# Altium footprint library 618 0xx 292 21.PcbLib: 4 footprints
Each footprint in its own frame and in the unit in brackets; x right, y up, seen from the top. Pads: shape width x height; smd on the part's side, far side on the other; paste and mask are expansions set on the pad; w line width, h text height; cw(c..) or ccw(c..) is an arc to the next point about the centre after c.
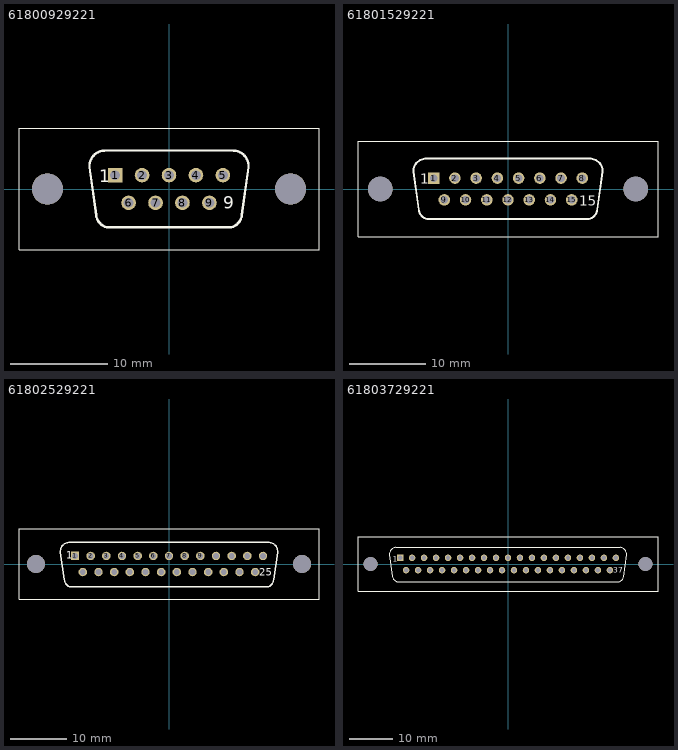
[diagram p0: the footprints below, top view; thin cyan lines are the x and y axes]

## 61800929221 [mm] "Male 09p Straight With board clip & Hex screw UNC 4-40"
height 10.9
pads (11):
  rect 1.5x1.5 hole 1: 1(-5.54,1.42)
  round 1.5 hole 1: 2(-2.77,1.42) 3(0,1.42) 4(2.77,1.42) 5(5.54,1.42) 6(-4.155,-1.42) 7(-1.385,-1.42) 8(1.385,-1.42) 9(4.155,-1.42)
  round 3.2 hole 3.2 unplated: ""(-12.495,0) ""(12.495,0)
Top Overlay:
  lines w0.127: -15.405,-6.25 -15.405,6.25 15.405,6.25 15.405,-6.25 -15.405,-6.25
  lines w0.254: -6.665,3.95 ccw(c-6.559,2.343) -8.165,2.237 -7.477,-2.663 ccw(c-6.09,-2.564) -6.407,-3.917 ; -6.665,3.954 6.65,3.954 ; -6.35,-3.933 6.35,-3.937 ; 6.406,-3.917 ccw(c6.09,-2.564) 7.477,-2.663 8.165,2.237 ccw(c6.559,2.343) 6.665,3.95
  text "9" at 5.575,-2.025 h1.27
  text "1" at -7.175,0.7 h1.27
3D body: height 12.9, standoff -4, extent -15.405,-6.25 15.405,6.25

## 61801529221 [mm] "Male 15p Straight With board clip & Hex screw UNC 4-40"
height 10.9
pads (17):
  rect 1.5x1.5 hole 1: 1(-9.695,1.42)
  round 1.5 hole 1: 2(-6.925,1.42) 3(-4.155,1.42) 4(-1.385,1.42) 5(1.385,1.42) 6(4.155,1.42) 7(6.925,1.42) 8(9.695,1.42) 9(-8.31,-1.42) 10(-5.54,-1.42) 11(-2.77,-1.42) 12(0,-1.42) 13(2.77,-1.42) 14(5.54,-1.42) 15(8.31,-1.42)
  round 3.2 hole 3.2 unplated: ""(-16.66,0) ""(16.66,0)
Top Overlay:
  lines w0.127: -19.57,-6.25 19.57,-6.25 19.57,6.25 -19.57,6.25 -19.57,-6.25
  lines w0.254: -10.83,3.95 ccw(c-10.724,2.343) -12.33,2.237 -11.642,-2.663 ccw(c-10.255,-2.564) -10.572,-3.917 ; -10.83,3.954 10.83,3.954 ; -10.541,-3.933 10.541,-3.933 ; 10.571,-3.917 ccw(c10.255,-2.564) 11.642,-2.663 12.33,2.237 ccw(c10.724,2.343) 10.83,3.95
  text "1" at -11.45,0.675 h1.27
  text "15" at 9.3,-2.175 h1.27
3D body: height 12.9, standoff -4, extent -19.57,-6.25 19.57,6.25

## 61802529221 [mm] "Male 25p Straight With board clip & Hex screw UNC 4-40"
height 10.9
pads (27):
  rect 1.5x1.5 hole 1: 1(-16.62,1.42)
  round 1.5 hole 1: 2(-13.85,1.42) 3(-11.08,1.42) 4(-8.31,1.42) 5(-5.54,1.42) 6(-2.77,1.42) 7(0,1.42) 8(2.77,1.42) 9(5.54,1.42) 10(8.31,1.42) 11(11.08,1.42) 12(13.85,1.42) 13(16.62,1.42) 14(-15.235,-1.42) 15(-12.465,-1.42) 16(-9.695,-1.42) 17(-6.925,-1.42) 18(-4.155,-1.42) 19(-1.385,-1.42) 20(1.385,-1.42) 21(4.155,-1.42) 22(6.925,-1.42) 23(9.695,-1.42) 24(12.465,-1.42) 25(15.235,-1.42)
  round 3.2 hole 3.2 unplated: ""(-23.52,0) ""(23.52,0)
Top Overlay:
  lines w0.127: -26.52,-6.25 26.52,-6.25 26.52,6.25 -26.52,6.25 -26.52,-6.25
  lines w0.254: -17.69,3.823 ccw(c-17.584,2.216) -19.19,2.11 -18.502,-2.79 ccw(c-17.115,-2.691) -17.432,-4.044 ; -17.69,3.827 17.69,3.827 ; -17.399,-4.06 17.399,-4.06 ; 17.431,-4.044 ccw(c17.115,-2.691) 18.502,-2.79 19.19,2.11 ccw(c17.584,2.216) 17.69,3.823
  text "25" at 15.925,-2.05 h1.27
  text "1" at -18.2,0.95 h1.27
3D body: height 12.9, standoff -4, extent -26.52,-6.25 26.52,6.25

## 61803729221 [mm] "Male 37p Straight With board clip & Hex screw UNC 4-40"
height 10.9
pads (39):
  rect 1.5x1.5 hole 1: 1(-24.93,1.42)
  round 1.5 hole 1: 2(-22.16,1.42) 3(-19.39,1.42) 4(-16.62,1.42) 5(-13.85,1.42) 6(-11.08,1.42) 7(-8.31,1.42) 8(-5.54,1.42) 9(-2.77,1.42) 10(0,1.42) 11(2.77,1.42) 12(5.54,1.42) 13(8.31,1.42) 14(11.08,1.42) 15(13.85,1.42) 16(16.62,1.42) 17(19.39,1.42) 18(22.16,1.42) 19(24.93,1.42) 20(-23.545,-1.42) 21(-20.775,-1.42) 22(-18.005,-1.42) 23(-15.235,-1.42) 24(-12.465,-1.42) 25(-9.695,-1.42) 26(-6.925,-1.42) 27(-4.155,-1.42) 28(-1.385,-1.42) 29(1.385,-1.42) 30(4.155,-1.42) 31(6.925,-1.42) 32(9.695,-1.42) 33(12.465,-1.42) 34(15.235,-1.42) 35(18.005,-1.42) 36(20.775,-1.42) 37(23.545,-1.42)
  round 3.2 hole 3.2 unplated: ""(-31.75,0) ""(31.75,0)
Top Overlay:
  lines w0.127: -34.66,-6.25 -34.66,6.25 34.66,6.25 34.66,-6.25 -34.66,-6.25
  lines w0.254: -25.92,3.823 ccw(c-25.814,2.216) -27.42,2.11 -26.732,-2.79 ccw(c-25.345,-2.691) -25.662,-4.044 ; -25.92,3.827 25.92,3.827 ; -25.654,-4.064 25.527,-4.098 ; 25.55,-4.1 ccw(c25.374,-2.772) 26.704,-2.928 ; 25.92,3.823 cw(c25.814,2.216) 27.42,2.11 26.713,-2.923
  text "1" at -26.575,0.55 h1.27
  text "37" at 24.3,-2.025 h1.27
3D body: height 12.9, standoff -4, extent -34.66,-6.25 34.66,6.25